# Altium footprint library LPEDT_Component.PcbLib: 20 footprints (part 1 of 2)
Each footprint in its own frame and in the unit in brackets; x right, y up, seen from the top. Pads: shape width x height; smd on the part's side, far side on the other; paste and mask are expansions set on the pad; w line width, h text height; cw(c..) or ccw(c..) is an arc to the next point about the centre after c.
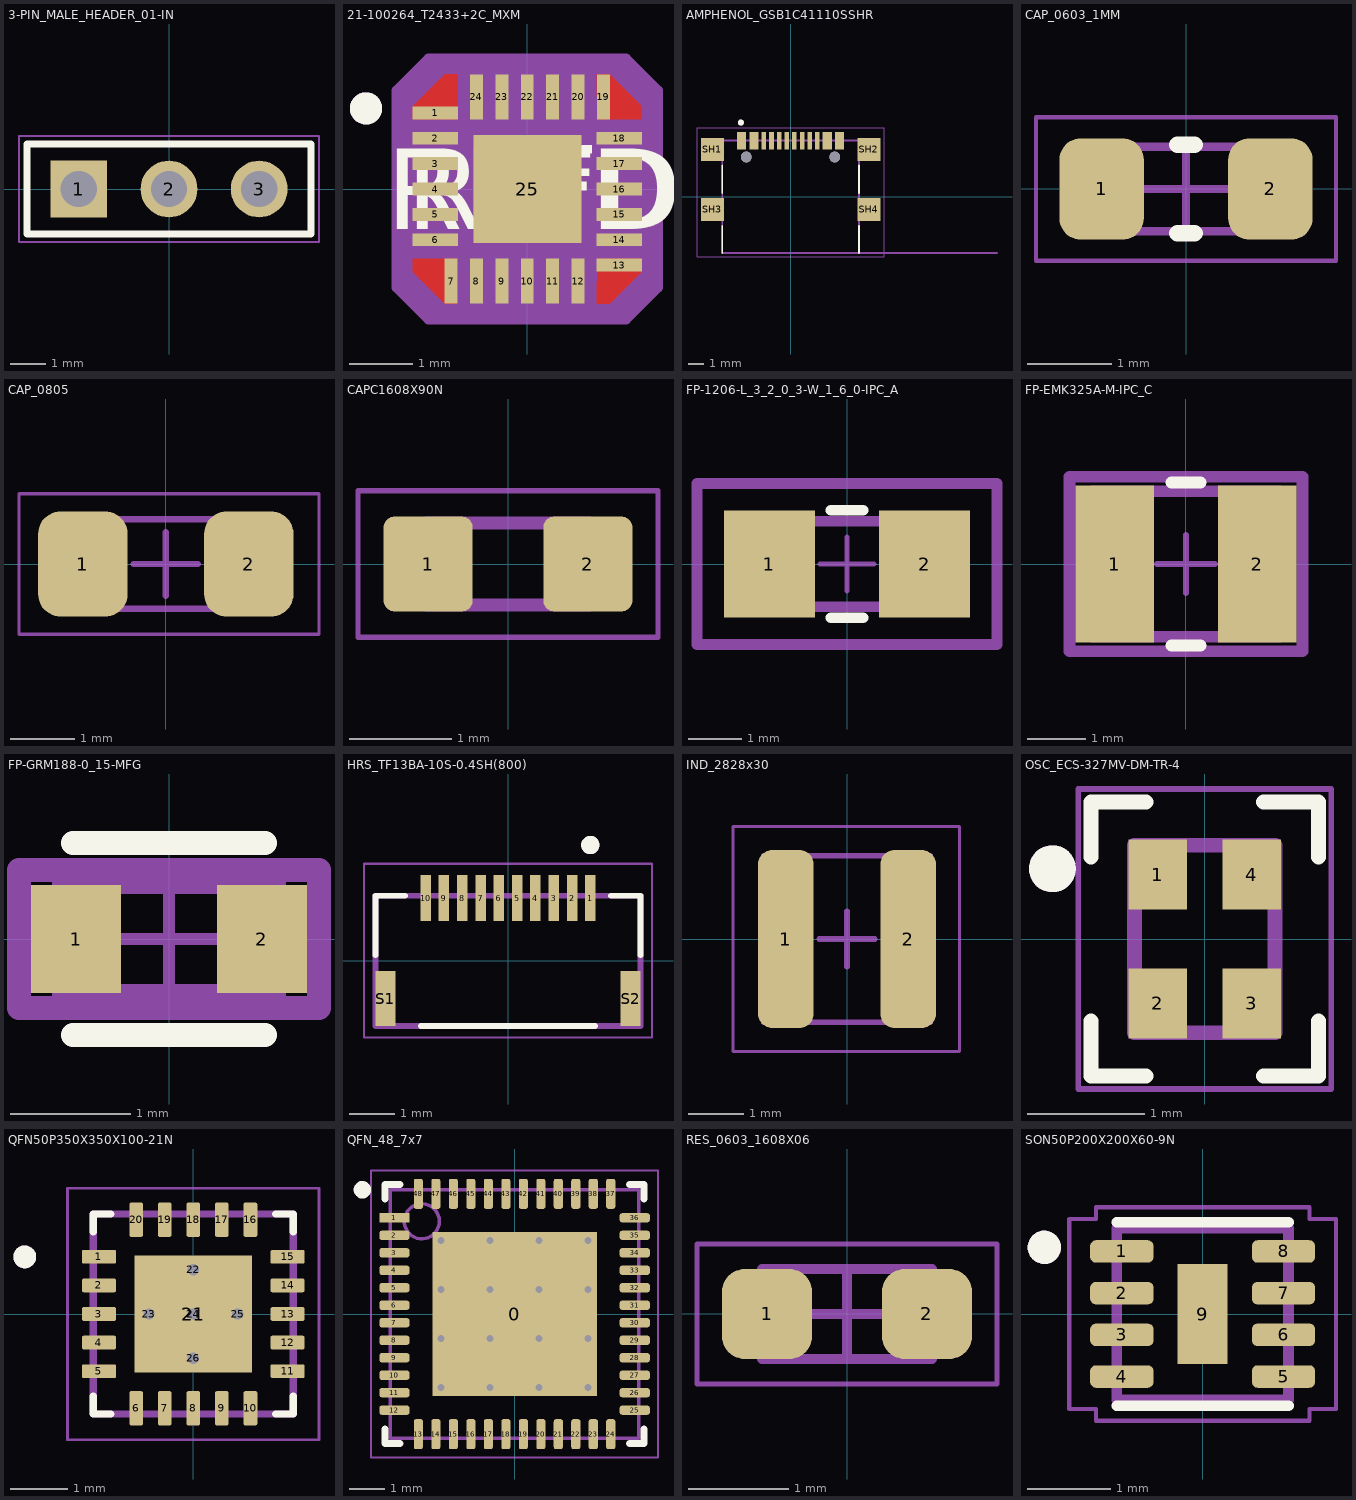
[diagram p0: the footprints below, top view; thin cyan lines are the x and y axes]

## 3-PIN_MALE_HEADER_01-IN [mm]
pads (3):
  rect 1.6x1.6 hole 1.02: 1(-2.54,0)
  round 1.6 hole 1.02: 2(0,0) 3(2.54,0)
Top Overlay:
  lines w0.2: -4,-1.27 4,-1.27 4,1.27 -4,1.27 -4,-1.27
Mechanical 13:
  lines w0.1: -4,-1.27 4,-1.27 4,1.27 -4,1.27 -4,-1.27
  text ".Designator" at -1.524,-0.635 h1.3
Mechanical 15:
  lines w0.05: -4.225,-1.495 4.225,-1.495 4.225,1.495 -4.225,1.495 -4.225,-1.495
  lines w0.1: -0.5,0 0.5,0 ; 0,-0.5 0,0.5
3D body "User Library-Header_Male_3Pin.STEP": height 8.54, standoff -3, extent -3.81,-1.27 3.81,1.22

## 21-100264_T2433+2C_MXM [mil]
pads (25):
  rect 28x8 smd paste+0 mask+0: 1(-57.09,47.24) 2(-57.09,31.5) 3(-57.09,15.75) 4(-57.09,0) 5(-57.09,-15.75) 6(-57.09,-31.5) 13(57.09,-47.24) 14(57.09,-31.5) 15(57.09,-15.75) 16(57.09,0) 17(57.09,15.75) 18(57.09,31.5)
  rect 8x28 smd paste+0 mask+0: 7(-47.24,-57.09) 8(-31.5,-57.09) 9(-15.75,-57.09) 10(0,-57.09) 11(15.75,-57.09) 12(31.5,-57.09) 19(47.24,57.09) 20(31.5,57.09) 21(15.75,57.09) 22(0,57.09) 23(-15.75,57.09) 24(-31.5,57.09)
  rect 67x67 smd paste-33.5 mask-33.5: 25(0,0)
Top Layer:
  region: -51.24,71.09 -43.24,71.09 -43.24,43.24 -71.09,43.24 -71.09,51.24
  region: -71.09,-51.24 -71.09,-43.24 -43.09,-43.24 -43.24,-71.09 -51.24,-71.09
  region: 51.24,-71.09 43.24,-71.09 43.25,-43.25 71.09,-43.24 71.09,-51.24
  region: 51.24,71.09 43.24,71.09 43.25,43.24 71.09,43.24 71.09,51.24
Top Overlay:
  circle w10: c-100,50 r5
  text "RefDes" at -75,-25 h50
  text "REFDES" at -87.5,-25 h50
Top Paste:
  region: -51.24,71.09 -43.24,71.09 -43.24,43.24 -71.09,43.24 -71.09,51.24
  region: -71.09,-51.24 -71.09,-43.24 -43.09,-43.24 -43.24,-71.09 -51.24,-71.09
  region: 51.24,-71.09 43.24,-71.09 43.25,-43.25 71.09,-43.24 71.09,-51.24
  region: 51.24,71.09 43.24,71.09 43.25,43.24 71.09,43.24 71.09,51.24
Top Solder:
  region: -71.09,-51.24 -71.09,-43.24 -43.09,-43.24 -43.24,-71.09 -51.24,-71.09
  region: 51.24,71.09 43.24,71.09 43.25,43.24 71.09,43.24 71.09,51.24
  region: -51.24,71.09 -43.24,71.09 -43.24,43.24 -71.09,43.24 -71.09,51.24
  region: 51.24,-71.09 43.24,-71.09 43.25,-43.25 71.09,-43.24 71.09,-51.24
Mechanical 13:
  circle w10: c-100,50 r5
  lines w1: -59,9 -9,59 ; -59,-59 -59,59 59,59 59,-59 -59,-59
  text "RefDes2" at -87.5,-25 h50
Mechanical 15:
  region: 61.24,81.09 -61.24,81.09 -81.09,61.24 -81.09,-61.24 -61.24,-81.09 61.24,-81.09 81.09,-61.24 81.09,61.24
  lines w6: -33.5,-81.09 61.24,-81.09 81.09,-61.24 81.09,-33.24 81.09,61.24 61.24,81.09 33.24,81.09 -61.24,81.09 -81.09,61.24 -81.09,33.24 -81.09,-61.24 -61.24,-81.09 -33.24,-81.09

## AMPHENOL_GSB1C41110SSHR [mm]
height 3.21
pads (18):
  rect 0.6x1.15 smd mask+0.05: A1_B12(-3.2,3.68) A4_B9(-2.4,3.68) B1_A12(3.2,3.68) B4_A9(2.4,3.68)
  rect 0.3x1.15 smd mask+0.05: A5(-1.25,3.68) A6(-0.25,3.68) A7(0.25,3.68) A8(1.25,3.68) B5(1.75,3.68) B6(0.75,3.68) B7(-0.75,3.68) B8(-1.75,3.68)
  rect 1.5x1.5 smd: SH1(-5.12,3.105) SH2(5.12,3.105) SH3(-5.12,-0.825) SH4(5.12,-0.825)
  round 0.7 hole 0.7 unplated: ""(-2.89,2.605) ""(2.89,2.605)
Top Overlay:
  circle w0.2: c-3.25,4.855 r0.1
  lines w0.127: -4.47,-3.675 -4.47,-1.889 ; -4.47,0.239 -4.47,2.041 ; 4.47,-3.675 4.47,-1.889 ; 4.47,0.239 4.47,2.041
Mechanical 13:
  circle w0.2: c-3.25,4.855 r0.1
  lines w0.127: 13.5,-3.675 4.47,-3.675 ; 4.47,-3.675 4.47,3.675 -4.47,3.675 -4.47,-3.675 4.47,-3.675
  text "PCB EDGE" at 6.35,-3.427 h1
Mechanical 15:
  lines w0.05: -6.12,-3.925 6.12,-3.925 6.12,4.505 -6.12,4.505 -6.12,-3.925
3D body "step_temp.STEP": height 1.58, standoff -2.3, extent -5.92,-2.048 5.42,5.55

## CAP_0603_1MM [mm]
pads (2):
  rrect50% 1x1.2 smd: 1(-1,0) 2(1,0)
Top Overlay:
  lines w0.2: -0.1,-0.525 0.1,-0.525 ; -0.1,0.525 0.1,0.525
Mechanical 13:
  lines w0.1: -0.9,-0.5 -0.9,0.5 0.9,0.5 0.9,-0.5 -0.9,-0.5
  text ".Designator" at -0.723,-0.254 h0.5
Mechanical 15:
  lines w0.05: -1.778,-0.85 -1.778,0.85 1.778,0.85 1.778,-0.85 -1.778,-0.85
  lines w0.1: -0.5,0 0.5,0 ; 0,-0.5 0,0.5
3D body "CAP_0603_1608X10.step": height 1, standoff 0, extent -0.9,-0.5 0.9,0.5

## CAP_0805 [mm]
pads (2):
  rrect50% 1.4x1.65 smd: 1(-1.3,0) 2(1.3,0)
Mechanical 13:
  lines w0.1: -1.075,-0.7 -1.075,0.7 1.075,0.7 1.075,-0.7 -1.075,-0.7
  text ".Designator" at -0.67,-0.203 h0.5
Mechanical 15:
  lines w0.05: -2.3,-1.1 -2.3,-0.55 -2.3,0.55 -2.3,1.1 2.4,1.1 2.4,0.55 2.4,-0.55 2.4,-1.1 -2.3,-1.1
  lines w0.1: -0.5,0 0.5,0 ; 0,-0.5 0,0.5
3D body "CAP_0805.step": height 1.4, standoff 0, extent -1.075,-0.7 1.075,0.7

## CAPC1608X90N [mm]
pads (2):
  rrect25% 0.87x0.93 smd: 1(-0.78,0) 2(0.78,0)
Mechanical 13:
  lines w0.127: -0.8,-0.4 0.8,-0.4 0.8,0.4 -0.8,0.4 -0.8,-0.4
Mechanical 15:
  lines w0.05: -1.465,-0.715 1.465,-0.715 1.465,0.715 -1.465,0.715 -1.465,-0.715
3D body "step_temp.STEP": height 0.9, standoff 0, extent -0.8,-0.4 0.8,0.4

## FP-1206-L_3_2_0_3-W_1_6_0-IPC_A [mm]
pads (2):
  rect 1.703x2.004 smd paste+0 mask+0: 1(-1.45,0) 2(1.45,0)
Top Overlay:
  lines w0.2: -0.299,-1.002 0.299,-1.002 ; -0.299,1.002 0.299,1.002
Top 3D Body:
  lines w0.2: -1.6,-0.8 1.6,-0.8 1.6,0.8 -1.6,0.8 -1.6,-0.8
Top Courtyard:
  lines w0.2: -2.802,-1.502 2.802,-1.502 2.802,1.502 -2.802,1.502 -2.802,-1.502
Top Assembly:
  lines w0.2: -2.802,-1.502 2.802,-1.502 2.802,1.502 -2.802,1.502 -2.802,-1.502
  text ".Designator" at 0,0.188 h1
Top Component Center:
  lines w0.1: -0.5,0 0.5,0 ; 0,-0.5 0,0.5
3D body "Cap_Taiyo_Yuden_UMK316BBJ106ML-T_eec.STEP": height 0.25, standoff 0, extent -2.802,-1.502 2.802,1.502

## FP-EMK325A-M-IPC_C [mm]
pads (2):
  rect 1.353x2.704 smd paste+0 mask+0: 1(-1.225,0) 2(1.225,0)
Top Overlay:
  lines w0.2: -0.249,-1.4 0.249,-1.4 ; -0.249,1.4 0.249,1.4
Top 3D Body:
  lines w0.2: -1.6,-1.25 1.6,-1.25 1.6,1.25 -1.6,1.25 -1.6,-1.25
Top Courtyard:
  lines w0.2: -2.002,-1.5 2.002,-1.5 2.002,1.5 -2.002,1.5 -2.002,-1.5
Top Assembly:
  lines w0.2: -2.002,-1.5 2.002,-1.5 2.002,1.5 -2.002,1.5 -2.002,-1.5
  text ".Designator" at 0,0.188 h1
Top Component Center:
  lines w0.1: -0.5,0 0.5,0 ; 0,-0.5 0,0.5
3D body "Cap_Taiyo_Yuden_EMK325ABJ107MM-T_eec.STEP": height 0.25, standoff 0, extent -2.002,-1.5 2.002,1.5

## FP-GRM188-0_15-MFG [mm]
pads (2):
  rect 0.75x0.9 smd paste+0 mask+0: 1(-0.775,0) 2(0.775,0)
Top Overlay:
  lines w0.2: -0.8,-0.8 0.8,-0.8 ; -0.8,0.8 0.8,0.8
Top 3D Body:
  lines w0.2: -0.875,-0.475 0.875,-0.475 0.875,0.475 -0.875,0.475 -0.875,-0.475
Top Courtyard:
  lines w0.2: -1.25,-0.575 1.25,-0.575 1.25,0.575 -1.25,0.575 -1.25,-0.575
Top Assembly:
  lines w0.2: -1.25,-0.575 1.25,-0.575 1.25,0.575 -1.25,0.575 -1.25,-0.575
  text ".Designator" at 0,0.188 h1
Top Component Center:
  lines w0.1: -0.5,0 0.5,0 ; 0,-0.5 0,0.5
3D body "Cap_Murata_GRM188R61C475KAAJD_eec.STEP": height 0.25, standoff 0, extent -1.25,-0.575 1.25,0.575

## HRS_TF13BA-10S-0.4SH(800) [mm]
pads (12):
  rect 0.23x1 smd: 1(1.8,1.375) 2(1.4,1.375) 3(1,1.375) 4(0.6,1.375) 5(0.2,1.375) 6(-0.2,1.375) 7(-0.6,1.375) 8(-1,1.375) 9(-1.4,1.375) 10(-1.8,1.375)
  rect 0.44x1.2 smd: S1(-2.68,-0.825) S2(2.68,-0.825)
Top Overlay:
  circle w0.2: c1.8,2.535 r0.1
  lines w0.127: -2.9,0.125 -2.9,1.425 -2.25,1.425 ; -1.9,-1.425 1.9,-1.425 ; 2.25,1.425 2.9,1.425 2.9,0.125
Mechanical 13:
  circle w0.2: c1.8,2.535 r0.1
  lines w0.127: -2.9,-1.425 -2.9,1.425 2.9,1.425 2.9,-1.425 -2.9,-1.425
Mechanical 15:
  lines w0.05: -3.15,-1.675 -3.15,2.125 3.15,2.125 3.15,-1.675 -3.15,-1.675

## IND_2828x30 [mm]
pads (2):
  rrect50% 1x3.2 smd: 1(-1.1,0) 2(1.1,0)
Mechanical 13:
  lines w0.1: -1.5,-1.5 1.5,-1.5 1.5,1.5 -1.5,1.5 -1.5,-1.5
  text ".Designator" at -1.02,-1.095 h0.9
Mechanical 15:
  lines w0.05: 2,-2.025 1.163,-2.025 0.656,-2.025 -0.506,-2.025 -1.162,-2.025 -2.05,-2.025 -2.05,2.025 2.025,2.025 2.025,-2.025
  lines w0.1: -0.5,0 0.5,0 ; 0,-0.5 0,0.5
3D body "WE-TPC_2828+(rev1).stp": height 2.8, standoff 0, extent -1.4,-1.4 1.4,1.4

## OSC_ECS-327MV-DM-TR-4 [mm]
height 0.7
pads (4):
  rect 0.5x0.6 smd: 1(-0.4,0.55) 2(-0.4,-0.55) 3(0.4,-0.55) 4(0.4,0.55)
Top Overlay:
  circle w0.2: c-1.3,0.6 r0.1
  lines w0.127: -0.97,-0.7 -0.97,-1.17 -0.5,-1.17 ; -0.97,0.7 -0.97,1.17 -0.5,1.17 ; 0.5,-1.17 0.97,-1.17 0.97,-0.7 ; 0.5,1.17 0.97,1.17 0.97,0.7
Mechanical 13:
  circle w0.2: c-1.3,0.6 r0.1
  lines w0.127: -0.6,-0.8 -0.6,0.8 0.6,0.8 0.6,-0.8 -0.6,-0.8
Mechanical 15:
  lines w0.05: -1.08,-1.28 -1.08,1.28 1.08,1.28 1.08,-1.28 -1.08,-1.28

## QFN50P350X350X100-21N [mm]
height 1
pads (26):
  rrect27% 0.6x0.24 smd mask+0: 1(-1.65,1) 2(-1.65,0.5) 3(-1.65,0) 4(-1.65,-0.5) 5(-1.65,-1) 11(1.65,-1) 12(1.65,-0.5) 13(1.65,0) 14(1.65,0.5) 15(1.65,1)
  rrect27% 0.24x0.6 smd mask+0: 6(-1,-1.65) 7(-0.5,-1.65) 8(0,-1.65) 9(0.5,-1.65) 10(1,-1.65) 16(1,1.65) 17(0.5,1.65) 18(0,1.65) 19(-0.5,1.65) 20(-1,1.65)
  rect 2.05x2.05 smd paste-2 mask+0.07: 21(0,0)
  round 0.3 hole 0.2 mask+0: 22(0,0.775) 23(-0.775,0) 24(0,0) 25(0.775,0) 26(0,-0.775)
Top Overlay:
  circle w0.2: c-2.95,1 r0.1
  lines w0.127: -1.75,-1.44 -1.75,-1.75 -1.44,-1.75 ; -1.75,1.44 -1.75,1.75 -1.44,1.75 ; 1.44,-1.75 1.75,-1.75 1.75,-1.44 ; 1.44,1.75 1.75,1.75 1.75,1.44
Top Paste:
  region: 1.02,-1.02 0.1,-1.02 0.1,-0.1 1.02,-0.1
  region: -0.1,-1.02 -1.02,-1.02 -1.02,-0.1 -0.1,-0.1
  region: 1.02,0.1 0.1,0.1 0.1,1.02 1.02,1.02
  region: -0.1,0.1 -1.02,0.1 -1.02,1.02 -0.1,1.02
Top Solder:
  drawing of 20 lines, arcs and shapes, not listed
Mechanical 13:
  circle w0.2: c-2.95,1 r0.1
  lines w0.127: -1.75,-1.75 -1.75,1.75 1.75,1.75 1.75,-1.75 -1.75,-1.75
Mechanical 15:
  lines w0.05: -2.2,-2.2 2.2,-2.2 2.2,2.2 -2.2,2.2 -2.2,-2.2
3D body "step_temp.STEP": height 1, standoff 0, extent -1.75,-1.75 1.75,1.75

## QFN_48_7x7 [mm] "BLUE GECKO QFN48 2.4GHz 512KB 6"
height 0.9
pads (49):
  rect 4.7x4.7 smd paste-100 mask+0.05: 0(0,0)
  rect 0.86x0.26 smd mask+0.05: 1(-3.435,2.75)
  rrect50% 0.86x0.26 smd mask+0.05: 2(-3.435,2.25) 3(-3.435,1.75) 4(-3.435,1.25) 5(-3.435,0.75) 6(-3.435,0.25) 7(-3.435,-0.25) 8(-3.435,-0.75) 9(-3.435,-1.25) 10(-3.435,-1.75) 11(-3.435,-2.25) 12(-3.435,-2.75) 25(3.435,-2.75) 26(3.435,-2.25) 27(3.435,-1.75) 28(3.435,-1.25) 29(3.435,-0.75) 30(3.435,-0.25) 31(3.435,0.25) 32(3.435,0.75) 33(3.435,1.25) 34(3.435,1.75) 35(3.435,2.25) 36(3.435,2.75)
  rrect50% 0.26x0.86 smd mask+0.05: 13(-2.75,-3.435) 14(-2.25,-3.435) 15(-1.75,-3.435) 16(-1.25,-3.435) 17(-0.75,-3.435) 18(-0.25,-3.435) 19(0.25,-3.435) 20(0.75,-3.435) 21(1.25,-3.435) 22(1.75,-3.435) 23(2.25,-3.435) 24(2.75,-3.435) 37(2.75,3.435) 38(2.25,3.435) 39(1.75,3.435) 40(1.25,3.435) 41(0.75,3.435) 42(0.25,3.435) 43(-0.25,3.435) 44(-0.75,3.435) 45(-1.25,3.435) 46(-1.75,3.435) 47(-2.25,3.435) 48(-2.75,3.435)
via -2.1,2.1 diameter 0.5 hole 0.2
via 2.1,-2.1 diameter 0.5 hole 0.2
via 0.7,-2.1 diameter 0.5 hole 0.2
via -0.7,-2.1 diameter 0.5 hole 0.2
via -2.1,-2.1 diameter 0.5 hole 0.2
via 2.1,-0.7 diameter 0.5 hole 0.2
via 0.7,-0.7 diameter 0.5 hole 0.2
via -0.7,-0.7 diameter 0.5 hole 0.2
via -2.1,-0.7 diameter 0.5 hole 0.2
via 2.1,0.7 diameter 0.5 hole 0.2
via 0.7,0.7 diameter 0.5 hole 0.2
via -0.7,0.7 diameter 0.5 hole 0.2
via -2.1,0.7 diameter 0.5 hole 0.2
via 2.1,2.1 diameter 0.5 hole 0.2
via 0.7,2.1 diameter 0.5 hole 0.2
via -0.7,2.1 diameter 0.5 hole 0.2
Top Overlay:
  circle w0.25: c-4.35,3.55 r0.125
  lines w0.2: -3.7,-3.28 -3.7,-3.7 -3.28,-3.7 ; -3.7,3.28 -3.7,3.7 -3.28,3.7 ; 3.28,-3.7 3.7,-3.7 3.7,-3.28 ; 3.28,3.7 3.7,3.7 3.7,3.28
Top Paste:
  rectangle: -1.905,-1.911 -0.889,-0.87
  rectangle: -0.505,-1.911 0.511,-0.87
  rectangle: 0.895,-1.911 1.911,-0.87
  rectangle: -1.905,-0.511 -0.889,0.53
  rectangle: -0.505,-0.511 0.511,0.53
  rectangle: 0.895,-0.511 1.911,0.53
  rectangle: -1.905,0.889 -0.889,1.93
  rectangle: -0.505,0.889 0.511,1.93
  rectangle: 0.895,0.889 1.911,1.93
Mechanical 13:
  circle w0.1: c-2.65,2.65 r0.5
  lines w0.1: -3.55,-3.55 -3.55,3.55 3.55,3.55 3.55,-3.55 -3.55,-3.55
  text ".Designator" at -3.55,-3.264 h1.52
Mechanical 15:
  lines w0.05: -4.1,-4.1 -4.1,4.1 4.1,4.1 4.1,-4.1 -4.1,-4.1
  lines w0.1: -0.5,0 0.5,0 ; 0,-0.5 0,0.5
3D body "QFN_48_7x7.step": height 0.9, standoff 0, extent -3.551,-3.551 3.551,3.551

## RES_0603_1608X06 [mm]
pads (2):
  rrect50% 0.9x0.9 smd: 1(-0.8,0) 2(0.8,0)
Mechanical 13:
  lines w0.1: -0.85,-0.45 0.85,-0.45 0.85,0.45 -0.85,0.45 -0.85,-0.45
  text ".Designator" at -0.635,-0.254 h0.4
Mechanical 15:
  lines w0.05: -1.5,-0.7 1.5,-0.7 1.5,0.7 -1.5,0.7 -1.5,-0.7
  lines w0.1: -0.45,0 0.45,0 ; 0,-0.45 0,0.45
3D body "0603_1608X05N.step": height 0.45, standoff 0, extent -0.775,-0.425 0.775,0.425

## SON50P200X200X60-9N [mm]
pads (9):
  rrect50% 0.76x0.27 smd: 1(-0.97,0.75) 2(-0.97,0.25) 3(-0.97,-0.25) 4(-0.97,-0.75) 5(0.97,-0.75) 6(0.97,-0.25) 7(0.97,0.25) 8(0.97,0.75)
  rect 0.6x1.2 smd paste-0.115: 9(0,0)
Top Overlay:
  circle w0.2: c-1.9,0.8 r0.1
  lines w0.127: -1.03,-1.099 1.03,-1.099 ; -1.03,1.099 1.03,1.099
Mechanical 13:
  circle w0.2: c-1.9,0.8 r0.1
  lines w0.127: -1.03,-1.03 1.03,-1.03 1.03,1.03 -1.03,1.03 -1.03,-1.03
Mechanical 15:
  lines w0.05: -1.6,-1.14 -1.6,1.14 ; -1.6,-1.14 -1.6,1.14 ; -1.6,-1.14 -1.28,-1.14 -1.28,-1.28 1.28,-1.28 1.28,-1.14 1.6,-1.14 1.6,1.14 1.28,1.14 1.28,1.28 -1.28,1.28 -1.28,1.14 -1.6,1.14
3D body "step_temp.STEP": height 0.6, standoff 0, extent -1,-1 1,1